# EAGLE library part 6N138S (library 6N138S)
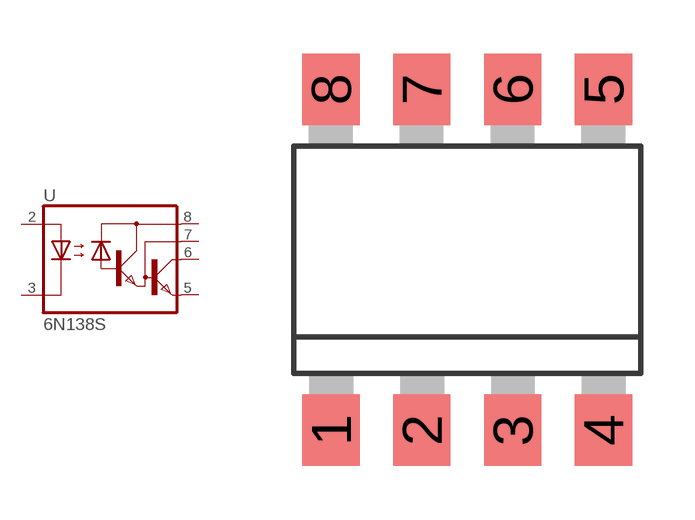
[diagram p0: symbol with the pads of DIL8-SMD; footprint DIL8-SMD]

Designator prefix -

## 6N138S  [DIL8-SMD]
2  A  pas
3  C  pas
5  GND  pas
6  VO  pas
7  VB  pas
8  VCC  pas

## Footprint DIL8-SMD (pad centres in mm)
smd 1.6 x 2: 1 -3.81,-4.77; 2 -1.27,-4.77; 3 1.27,-4.77; 4 3.81,-4.77; 5 3.81,4.77; 6 1.27,4.77; 7 -1.27,4.77; 8 -3.81,4.77